# Altium schematic symbol library 2019-07-21_05-52-01.SchLib: 11 symbols
Pins are listed as number, name and electrical type; pins without a type are passive.

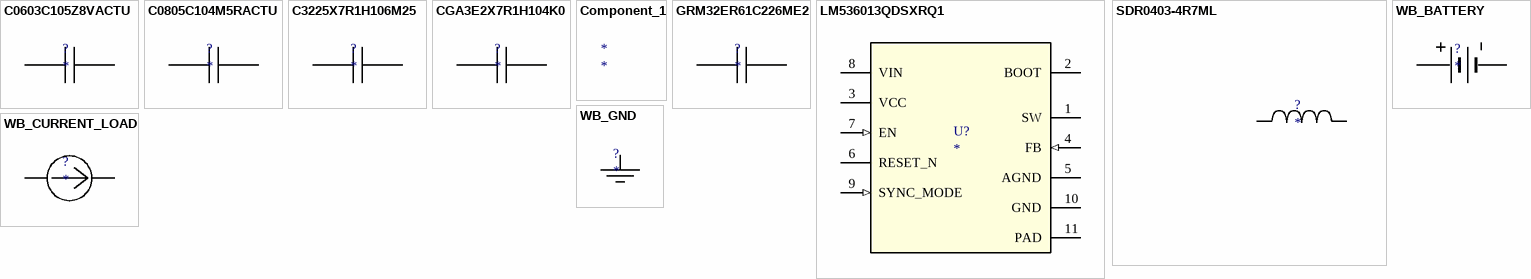
[diagram p0: symbols C0603C105Z8VACTU to WB_GND]

## C0603C105Z8VACTU
designator ?
Imported; Manufacturer_Part_Number: C0603C105Z8VACTU; Vendor: Kemet; Manufacturer_Name: Kemet; RefDes: RefDes; TYPE: TYPE; Value: Value
footprint 0603
pins: 1, 2

## C0805C104M5RACTU
designator ?
Imported; Manufacturer_Part_Number: C0805C104M5RACTU; Vendor: Kemet; Manufacturer_Name: Kemet; RefDes: RefDes; TYPE: TYPE; Value: Value
footprint 0805
pins: 1, 2

## C3225X7R1H106M25
designator ?
Imported; Manufacturer_Part_Number: C3225X7R1H106M250AC; Vendor: TDK; Manufacturer_Name: TDK; RefDes: RefDes; TYPE: TYPE; Value: Value
footprint 1210
pins: 1, 2

## CGA3E2X7R1H104K0
designator ?
Imported; Manufacturer_Part_Number: CGA3E2X7R1H104K080AA; Vendor: TDK; Manufacturer_Name: TDK; RefDes: RefDes; TYPE: TYPE; Value: Value
footprint 0603
pins: 1, 2

## Component_1
designator *

## GRM32ER61C226ME2
designator ?
Imported; Manufacturer_Part_Number: GRM32ER61C226ME20L; Vendor: MuRata; Manufacturer_Name: MuRata; RefDes: RefDes; TYPE: TYPE; Value: Value
footprint 1210
pins: 1, 2

## LM536013QDSXRQ1
designator U?
Imported; PartNumber: LM536013QDSXRQ1; Manufacturer: Texas Instruments; CompType: IC; PIN_COUNT: 11; Application_BuildNumber: *; PackageReference: DSX0010A; MountType: SMT; RoHS: Y; RefDes: RefDes; TYPE: TYPE; Value: Value; Manufacturer_Part_Number: LM536013QDSXRQ1; Manufacturer_Name: Texas Instruments
footprint DSX0010A
pins: 1 SW (power), 2 BOOT (power), 3 VCC (power), 4 FB (in), 5 AGND (power), 6 RESET_N (oc), 7 EN (in), 8 VIN (power), 9 SYNC_MODE (in), 10 GND (power), 11 PAD (power)

## SDR0403-4R7ML
designator ?
Imported; Manufacturer_Part_Number: SDR0403-4R7ML; Vendor: Bourns; Manufacturer_Name: Bourns; RefDes: RefDes; TYPE: TYPE; Value: Value
footprint SDR0403
pins: 1, 2

## WB_BATTERY
designator ?
Imported; Manufacturer_Part_Number: WB_BATTERY; PowerPortType: POWER_GROUND; Value: Value; Manufacturer_Name: WB_BATTERY; RefDes: RefDes; TYPE: TYPE
pins: 1 +, 2 -

## WB_CURRENT_LOAD
designator ?
Imported; Manufacturer_Part_Number: WB_CURRENT_LOAD; PowerPortType: POWER_GROUND; Value: Value; Manufacturer_Name: WB_CURRENT_LOAD; RefDes: RefDes; TYPE: TYPE
pins: 1 +, 2 -

## WB_GND
designator ?
Imported; Manufacturer_Part_Number: WB_GND; PowerPortType: POWER_GROUND; Value: Value; Manufacturer_Name: WB_GND; RefDes: RefDes; TYPE: TYPE
pins: 1